# EAGLE library part 24POSCE (library 2600)
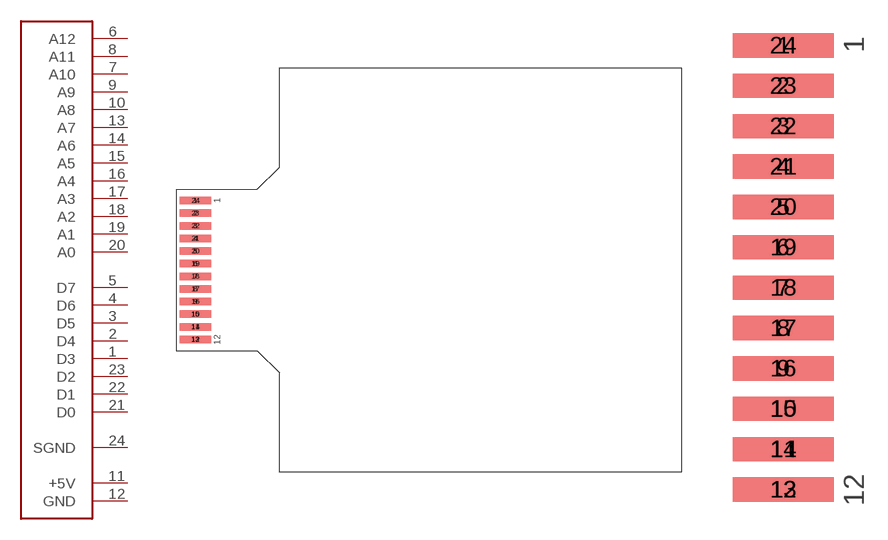
[diagram p0: symbol with the pads of 2600DEV; footprints 2600DEV, 2600LARGE]

Designator prefix CONN

## 24POSCEDEV  [2600DEV]
1  D3
2  D4
3  D5
4  D6
5  D7
6  A12
7  A10
8  A11
9  A9
10  A8
11  +5V  pwr
12  GND  pwr
13  A7
14  A6
15  A5
16  A4
17  A3
18  A2
19  A1
20  A0
21  D0
22  D1
23  D2
24  SGND

## 24POSCELARGE  [2600LARGE]
1  D3
2  D4
3  D5
4  D6
5  D7
6  A12
7  A10
8  A11
9  A9
10  A8
11  +5V  pwr
12  SGND
13  A7
14  A6
15  A5
16  A4
17  A3
18  A2
19  A1
20  A0
21  D0
22  D1
23  D2
24  GND  pwr

## 24POSCESMALL  [2600SMALL]
Pads as for 2600DEV

## 24POSCECARDEDGE  [24POSEDGECARD]
Pads as for 2600DEV

## 24POSCESPECIAL  [2600SPECIAL]
Pads as for 2600DEV

## Footprint 2600DEV (pad centres in mm)
smd 6.35 x 1.524: 1 3.81,13.97; 2 3.81,11.43; 3 3.81,8.89; 4 3.81,6.35; 5 3.81,3.81; 6 3.81,1.27; 7 3.81,-1.27; 8 3.81,-3.81; 9 3.81,-6.35; 10 3.81,-8.89; 11 3.81,-11.43; 12 3.81,-13.97
smd 6.35 x 1.524 bottom: 13 3.81,-13.97; 14 3.81,-11.43; 15 3.81,-8.89; 16 3.81,-6.35; 17 3.81,-3.81; 18 3.81,-1.27; 19 3.81,1.27; 20 3.81,3.81; 21 3.81,6.35; 22 3.81,8.89; 23 3.81,11.43; 24 3.81,13.97

## Footprint 2600LARGE (pad centres in mm)
smd 6.35 x 1.524: 1 3.81,13.97; 2 3.81,11.43; 3 3.81,8.89; 4 3.81,6.35; 5 3.81,3.81; 6 3.81,1.27; 7 3.81,-1.27; 8 3.81,-3.81; 9 3.81,-6.35; 10 3.81,-8.89; 11 3.81,-11.43; 12 3.81,-13.97
smd 6.35 x 1.524 bottom: 13 3.81,-13.97; 14 3.81,-11.43; 15 3.81,-8.89; 16 3.81,-6.35; 17 3.81,-3.81; 18 3.81,-1.27; 19 3.81,1.27; 20 3.81,3.81; 21 3.81,6.35; 22 3.81,8.89; 23 3.81,11.43; 24 3.81,13.97

## Footprint 2600SMALL (pad centres in mm)
smd 6.35 x 1.524: 1 3.81,13.97; 2 3.81,11.43; 3 3.81,8.89; 4 3.81,6.35; 5 3.81,3.81; 6 3.81,1.27; 7 3.81,-1.27; 8 3.81,-3.81; 9 3.81,-6.35; 10 3.81,-8.89; 11 3.81,-11.43; 12 3.81,-13.97
smd 6.35 x 1.524 bottom: 13 3.81,-13.97; 14 3.81,-11.43; 15 3.81,-8.89; 16 3.81,-6.35; 17 3.81,-3.81; 18 3.81,-1.27; 19 3.81,1.27; 20 3.81,3.81; 21 3.81,6.35; 22 3.81,8.89; 23 3.81,11.43; 24 3.81,13.97
hole 6.731 at 51.308,0

## Footprint 24POSEDGECARD (pad centres in mm)
drill 0.889: 1 -13.97,-0.94; 2 -11.43,-0.94; 3 -8.89,-0.94; 4 -6.35,-0.94; 5 -3.81,-0.94; 6 -1.27,-0.94; 7 1.27,-0.94; 8 3.81,-0.94; 9 6.35,-0.94; 10 8.89,-0.94; 11 11.43,-0.94; 12 13.97,-0.94; 13 13.97,4.14; 14 11.43,4.14; 15 8.89,4.14; 16 6.35,4.14; 17 3.81,4.14; 18 1.27,4.14; 19 -1.27,4.14; 20 -3.81,4.14; 21 -6.35,4.14; 22 -8.89,4.14; 23 -11.43,4.14; 24 -13.97,4.14

## Footprint 2600SPECIAL (pad centres in mm)
smd 6.35 x 1.524: 1 3.81,13.97; 2 3.81,11.43; 3 3.81,8.89; 4 3.81,6.35; 5 3.81,3.81; 6 3.81,1.27; 7 3.81,-1.27; 8 3.81,-3.81; 9 3.81,-6.35; 10 3.81,-8.89; 11 3.81,-11.43; 12 3.81,-13.97
smd 6.35 x 1.524 bottom: 13 3.81,-13.97; 14 3.81,-11.43; 15 3.81,-8.89; 16 3.81,-6.35; 17 3.81,-3.81; 18 3.81,-1.27; 19 3.81,1.27; 20 3.81,3.81; 21 3.81,6.35; 22 3.81,8.89; 23 3.81,11.43; 24 3.81,13.97